# Altium footprint library SebVLibr.PcbLib: 85 footprints (part 4 of 6)
Each footprint in its own frame and in the unit in brackets; x right, y up, seen from the top. Pads: shape width x height; smd on the part's side, far side on the other; paste and mask are expansions set on the pad; w line width, h text height; cw(c..) or ccw(c..) is an arc to the next point about the centre after c.
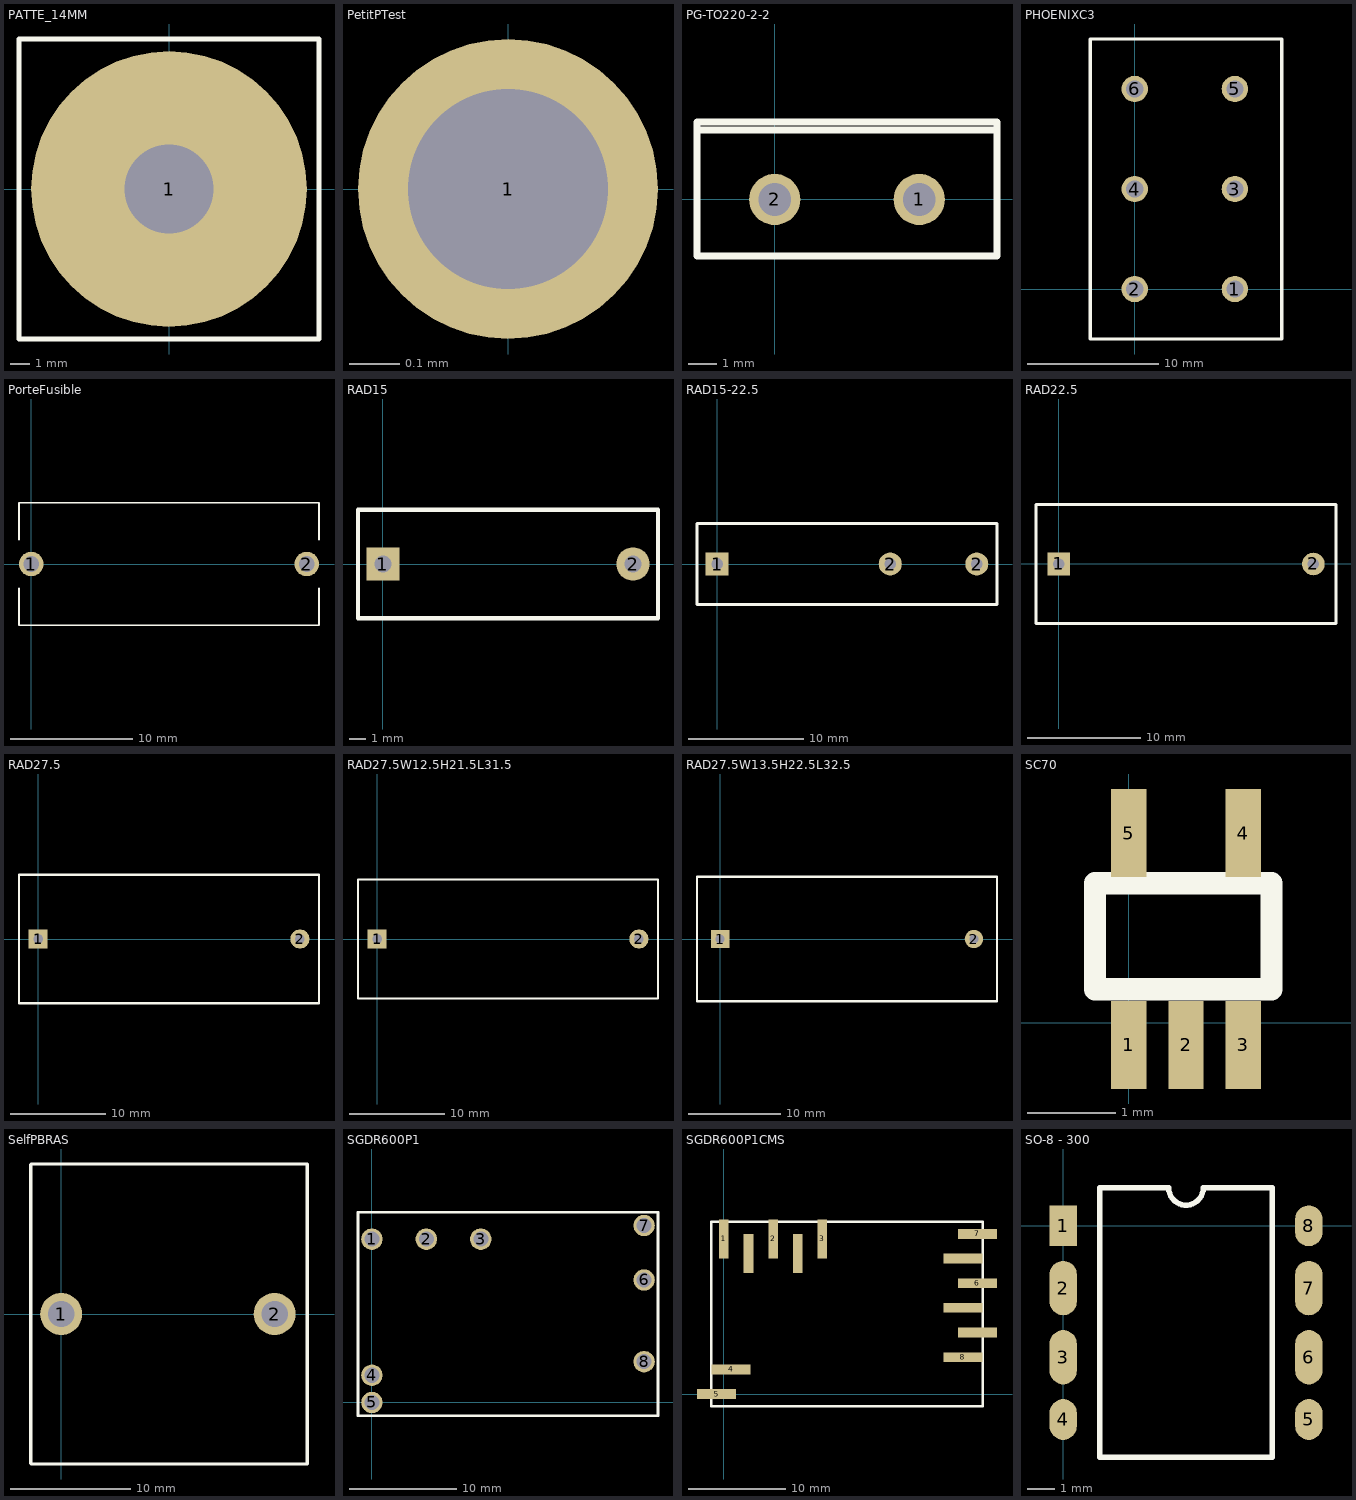
[diagram p3: the footprints below, top view; thin cyan lines are the x and y axes]

## PATTE_14MM [mm]
pads (1):
  round 14 hole 4.5: 1(0,0)
Top Overlay:
  lines w0.254: -7.62,-7.62 7.62,-7.62 7.62,7.62 -7.62,7.62 -7.62,-7.62

## PetitPTest [mm]
pads (1):
  round 0.6 hole 0.4: 1(0,0)

## PG-TO220-2-2 [mm]
height 19.5
pads (2):
  round 1.8 hole 1.15: 1(5.08,0) 2(0,0)
Top Overlay:
  lines w0.254: -2.73,2.438 7.81,2.438 ; -2.73,-1.982 7.81,-1.982 7.81,2.718 -2.73,2.718 -2.73,-1.982

## PHOENIXC3 [mm] "Farnell : 1793601"
pads (6):
  round 2 hole 1.3: 1(7.62,0) 2(0,0) 3(7.62,7.62) 4(0,7.62) 5(7.62,15.24) 6(0,15.24)
Top Overlay:
  lines w0.254: -3.4,-3.8 -3.4,19.04 11.2,19.04 11.2,-3.8 -3.4,-3.8

## PorteFusible [mm]
pads (2):
  round 2 hole 1.3: 1(0,0) 2(22.5,0)
Top Overlay:
  lines w0.15: -1,-2 -1,-5 23.5,-5 23.5,-2 ; -1,2 -1,5 23.5,5 23.5,2

## RAD15 [mm]
height 12.5
pads (2):
  rect 2x2 hole 1: 1(0,0)
  round 2 hole 1: 2(15,0)
Top Overlay:
  lines w0.254: -1.5,-3.25 16.5,-3.25 16.5,3.25 -1.5,3.25 -1.5,-3.25

## RAD15-22.5 [mm]
height 12.5
pads (3):
  rect 2x2 hole 1: 1(0,0)
  round 2 hole 1: 2(15,0) 2(22.5,0)
Top Overlay:
  lines w0.254: -1.75,-3.5 -1.75,3.5 24.25,3.5 24.25,-3.5 -1.75,-3.5

## RAD22.5 [mm]
height 16.5
pads (2):
  rect 2x2 hole 1: 1(0,0)
  round 2 hole 1: 2(22.5,0)
Top Overlay:
  lines w0.254: -2,-5.25 24.5,-5.25 24.5,5.25 -2,5.25 -2,-5.25

## RAD27.5 [mm]
height 23
pads (2):
  rect 2x2 hole 1: 1(0,0)
  round 2 hole 1: 2(27.5,0)
Top Overlay:
  lines w0.254: -2,-6.75 -2,6.75 29.5,6.75 29.5,-6.75 -2,-6.75

## RAD27.5W12.5H21.5L31.5 [mm]
height 21.5
pads (2):
  rect 2x2 hole 1: 1(0,0)
  round 2 hole 1: 2(27.5,0)
Top Overlay:
  lines w0.254: -2,-6.25 -2,6.25 29.5,6.25 29.5,-6.25 -2,-6.25

## RAD27.5W13.5H22.5L32.5 [mm]
height 23
pads (2):
  rect 2x2 hole 1: 1(0,0)
  round 2 hole 1: 2(27.5,0)
Top Overlay:
  lines w0.254: -2.5,-6.75 30,-6.75 30,6.75 -2.5,6.75 -2.5,-6.75

## SC70 [mm]
pads (5):
  rect 0.4x1 smd: 1(0,-0.25) 2(0.65,-0.25) 3(1.3,-0.25) 4(1.3,2.15) 5(0,2.15)
Top Overlay:
  lines w0.254: -0.381,0.381 -0.381,1.581 1.619,1.581 1.619,0.381 -0.381,0.381

## SelfPBRAS [mm] "Self unique"
pads (2):
  round 3.5 hole 2.2: 1(0,0) 2(17.78,0)
Top Overlay:
  lines w0.254: -2.54,-12.46 -2.54,0 -2.54,12.46 -2.5,12.5 20.5,12.5 20.5,-12.5 -2.5,-12.5 -2.54,-12.46

## SGDR600P1 [mm] "Driver pour IGBT(SiC)"
pads (8):
  round 2 hole 1.4: 1(0,15.24) 2(5.08,15.24) 3(10.16,15.24) 4(0,2.54) 5(0,0) 6(25.4,11.43) 7(25.4,16.51) 8(25.4,3.81)
Top Overlay:
  lines w0.254: -1.295,-1.245 26.695,-1.245 26.695,17.755 -1.295,17.755 -1.295,-1.245

## SGDR600P1CMS [mm] "Driver pour IGBT(SiC)"
pads (13):
  rect 1x4.04 smd: 1(0,15.99) 2(5.08,15.99) 3(10.16,15.99) ""(2.54,14.49) ""(7.62,14.49)
  rect 4.04x1 smd: 4(0.75,2.54) 5(-0.75,0) 6(26.15,11.43) 7(26.15,16.51) 8(24.65,3.81) ""(24.65,8.89) ""(24.65,13.97) ""(26.15,6.35)
Top Overlay:
  lines w0.254: -1.295,-1.245 26.695,-1.245 26.695,17.755 -1.295,17.755 -1.295,-1.245

## SO-8 - 300 [mm]
pads (8):
  rect 1x1.5 smd: 1(0,0)
  oval 1x2 smd: 2(0,-2.286) 3(0,-4.826) 6(9.015,-4.826) 7(9.015,-2.286)
  oval 1x1.5 smd: 4(0,-7.112) 5(9.015,-7.112) 8(9.015,0)
Top Overlay:
  lines w0.2: 1.332,-8.506 7.682,-8.506 7.682,1.394 5.142,1.394 cw(c4.507,1.394) 3.872,1.394 1.332,1.394 1.332,-8.506
3D body: height 4.79, standoff 0, extent -0.322,-8.386 9.338,1.274